# Altium schematic symbol library Generic_Devices.SchLib: 6 symbols
Pins are listed as number, name and electrical type; pins without a type are passive.

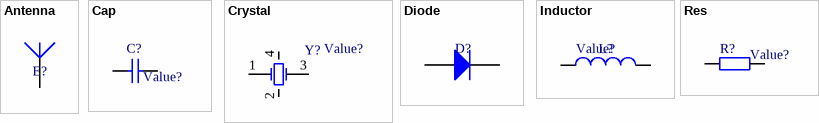
[diagram p0: symbols Antenna to Res]

## Antenna
designator E?  (value not drawn)
Antenna
pins: 1 A

## Cap
designator C?  value Value?  (hidden comment: *)
Capacitor
pins: 1, 2

## Crystal
designator Y?  value Value?  (hidden comment: Crystal)
Crystal 4 pins
pins: 1 OSC1, 2 GND, 3 OSC2, 4 GND

## Diode
designator D?  (value not drawn)
Diode; Value: Value?
pins: 1 A, 2 K

## Inductor
designator L?  value Value?  (hidden comment: *)
Inductor
pins: 1, 2

## Res
designator R?  value Value?  (hidden comment: *)
Resistor
pins: 1, 2